# Altium schematic symbol library LCD2004.SchLib: 2 symbols
Pins are listed as number, name and electrical type; pins without a type are passive.

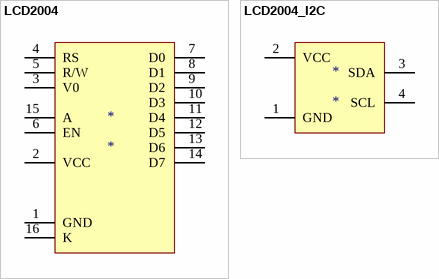
[diagram p0: symbols LCD2004 to LCD2004_I2C]

## LCD2004
designator *
pins: 1 GND, 2 VCC, 3 V0, 4 RS, 5 R/W, 6 EN, 7 D0, 8 D1, 9 D2, 10 D3, 11 D4, 12 D5, 13 D6, 14 D7, 15 A, 16 K

## LCD2004_I2C
designator *
pins: 1 GND, 2 VCC, 3 SDA, 4 SCL